# EAGLE library part MOLEX_503763-0491 (library Upverter Library)
Wire-To-Board Connector, Pico-Lock 503763 Series, Surface Mount, Header, 4 Contacts, 1 mm
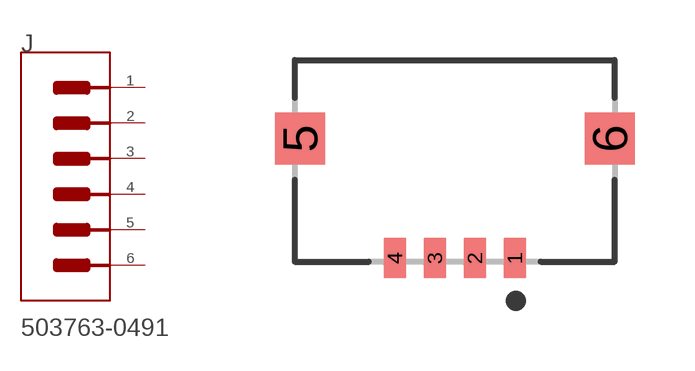
[diagram p0: symbol with the pads of MOLEX_503763-0491_0; footprint MOLEX_503763-0491_0]

Designator prefix J

## MOLEX_503763-0491MOLEX_503763-0491_0_0 (MF: Molex; MPN: 503763-0491; automotive: No; centroid_not_specified: No; conn_gender: Male; conn_orientation: Right Angle; contact_material: Gold,Nickel; current_rating: 1.5A; datasheet: https://www.molex.com/webdocs/datasheets/pdf/en-us/5037630491_PCB_HEADERS.pdf; device_class_L1: Connectors; device_class_L2: Headers and Wire Housings; device_class_L3: unset; digikey_description: CONN HEADER 1MM R/A 4CKT; digikey_part_number: WM10655CT-ND; footprint_url: https://www.molex.com/pdm_docs/sd/5037630491_sd.pdf; footprint_variant_name_0: Recommended_Land_Pattern; height: 1.7mm; lead_free: Yes; mfg_package_ident: 503763-0491; mfg_package_ident_date: 0; mfg_package_ident_rev: 0; mouser_part_number: 538-503763-0491; number_of_contacts: 4; number_of_rows: 1; package: HDR4; pitch: 1mm; prefix: J; rohs: Yes; temperature_range_high: +105°C; temperature_range_low: -40°C; verification_version: 0.0.0.1; voltage_rating: 150V)  [MOLEX_503763-0491_0]
1  1  pas
2  2  pas
3  3  pas
4  4  pas
5  MNT_1  pas
6  MNT_2  pas

## Footprint MOLEX_503763-0491_0 (pad centres in mm)
Wire-To-Board Connector, Pico-Lock 503763 Series, Surface Mount, Header, 4 Contacts, 1 mm
smd 0.55 x 1: 1 1.5,-2.435; 2 0.5,-2.435; 3 -0.5,-2.435; 4 -1.5,-2.435
smd 1.26 x 1.3: 5 -3.875,0.555; 6 3.875,0.555